# Altium footprint library PcbLib1.PcbLib: 7 footprints
Each footprint in its own frame and in the unit in brackets; x right, y up, seen from the top. Pads: shape width x height; smd on the part's side, far side on the other; paste and mask are expansions set on the pad; w line width, h text height; cw(c..) or ccw(c..) is an arc to the next point about the centre after c.
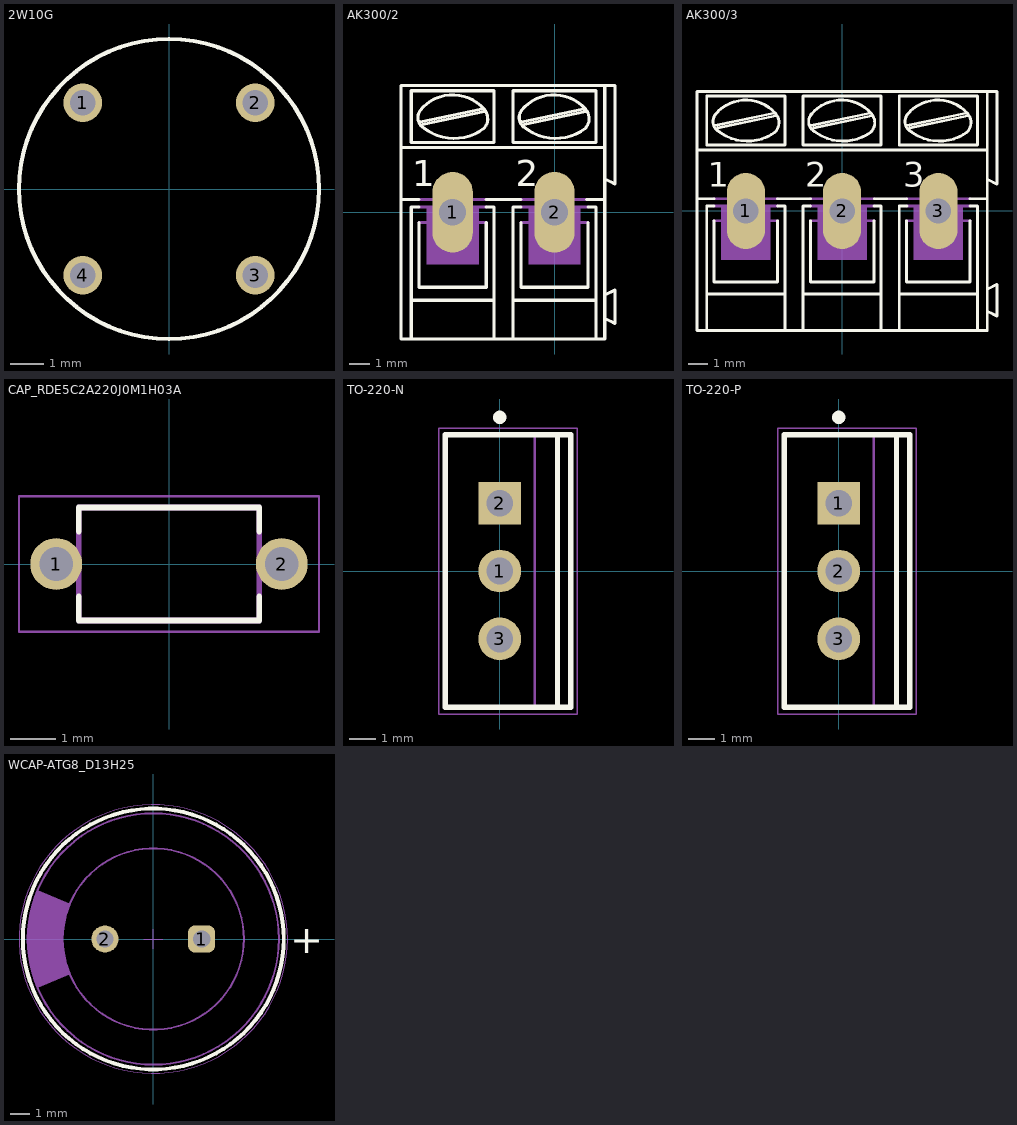
[diagram p0: the footprints below, top view; thin cyan lines are the x and y axes]

## 2W10G [mm]
pads (4):
  round 1.15 hole 0.75: 1(-2.55,2.55) 2(2.55,2.55) 3(2.55,-2.55) 4(-2.55,-2.55)
Top Overlay:
  circle w0.127: c0,0 r4.435
3D body "2W10.step": height 9.65, standoff -25.4, extent -6.364,-6.364 6.364,6.364

## AK300/2 [mil]
pads (2):
  oval 78x156 hole 52: 1(-197,0) 2(0,0)
Top Overlay:
  lines w6: -297,245 -297,125 -297,25 ; -295,125 97,125 ; -295,245 97,245 ; -262,-20 -262,-145 -132,-145 -132,-20 ; -262,10 -277,10 -277,-170 ; -262,25 -297,25 ; -260,175 -140,200 ; -259.99,197.01 cw(c-197,146) -135.82,199.18 ; -258.08,198.92 ccw(c-241,183) -252.32,162.57 ; -255,170 -135,195 ; -254.44,164.36 ccw(c-194,239) -136.19,162.29 ; -138.1,160.91 ccw(c-156.19,181.01) -136.09,199.1 ; -132,10 -117,10 -117,-170 ; -132,25 -65,25 ; -65,-20 -65,-145 65,-145 65,-20 ; -65,10 -80,10 -80,-170 ; -64,175 56,200 ; -63.99,197.01 cw(c-1,146) 60.18,199.18 ; -62.08,198.92 ccw(c-45,183) -56.32,162.57 ; -59,170 61,195 ; -58.44,164.36 ccw(c2,239) 59.8,162.29 ; 57.9,160.91 ccw(c39.81,181.01) 59.91,199.1 ; 62,25 97,25 ; 65,10 80,10 80,-170 ; 77,-245 97,-245 97,-205 ; -297,25 -297,-245 -277,-245 ; -277,-245 -117,-245 ; -277,-245 -277,-170 ; -277,-170 -117,-170 ; -117,-245 -117,-170 ; -117,-245 -80,-245 ; -80,-245 -80,-170 ; -80,-245 80,-245 80,-170 ; -80,-170 80,-170 ; 97,-205 117,-215 117,-150 97,-160 ; 97,-205 97,-160 ; 97,-160 97,25 ; 97,25 97,65 ; 97,65 117,55 117,245 97,245 ; 97,65 97,125 ; 97,125 97,245 ; -277,135 -117,135 -117,235 -277,235 -277,135 ; -80,135 -80,235 80,235 80,135 -80,135
  text "2" at -75,50 h50
  text "1" at -275,50 h50
Mechanical 13:
  region: -147,-100 -247,-100 -247,10 -147,10
  region: 50,-100 -50,-100 -50,10 50,10
  lines w6: -262,-20 -247,-20 ; -262,10 -132,10 ; -262,25 -132,25 ; -147,-20 -132,-20 ; -65,-20 -50,-20 ; -65,10 65,10 ; -65,25 65,25 ; 50,-20 65,-20
3D body "DG300-5.0-02P-12-00AH.STEP": height 496.06, standoff -173.23, extent -319.04,-157.47 98.28,196.86

## AK300/3 [mil]
pads (3):
  oval 78x156 hole 52: 1(-197,0) 2(0,0) 3(197,0)
Top Overlay:
  lines w6: -262,-20 -262,-145 -132,-145 -132,-20 ; -262,10 -277,10 -277,-170 ; -262,25 -297,25 ; -260,175 -140,200 ; -259.99,197.01 cw(c-197,146) -135.82,199.18 ; -258.08,198.92 ccw(c-241,183) -252.32,162.57 ; -255,170 -135,195 ; -254.44,164.36 ccw(c-194,239) -136.19,162.29 ; -138.1,160.91 ccw(c-156.19,181.01) -136.09,199.1 ; -132,10 -117,10 -117,-170 ; -132,25 -65,25 ; -65,-20 -65,-145 65,-145 65,-20 ; -65,10 -80,10 -80,-170 ; -64,175 56,200 ; -63.99,197.01 cw(c-1,146) 60.18,199.18 ; -62.08,198.92 ccw(c-45,183) -56.32,162.57 ; -59,170 61,195 ; -58.44,164.36 ccw(c2,239) 59.8,162.29 ; 57.9,160.91 ccw(c39.81,181.01) 59.91,199.1 ; 65,10 80,10 80,-170 ; 66,25 132,25 ; 132,-20 132,-145 262,-145 262,-20 ; 133,10 117,10 117,-170 ; 133,175 253,200 ; 133.01,197.01 cw(c196,146) 257.17,199.17 ; 134.92,198.92 ccw(c152,183) 140.68,162.57 ; 138,170 258,195 ; 138.56,164.36 ccw(c199,239) 256.8,162.29 ; 254.9,160.91 ccw(c236.81,181.01) 256.91,199.1 ; 262,10 277,10 277,-170 ; 262,25 297,25 ; -297,25 -297,125 ; -297,25 -297,-245 -277,-245 ; -297,125 -297,245 297,245 ; -297,125 297,125 ; -277,-245 -277,-170 ; -277,-245 -117,-245 ; -277,-170 -117,-170 ; -117,-245 -80,-245 ; -117,-245 -117,-170 ; -80,-245 80,-245 ; -80,-245 -80,-170 ; -80,-170 80,-170 ; 80,-245 80,-170 ; 80,-245 117,-245 ; 117,-245 277,-245 ; 117,-245 117,-170 ; 117,-170 277,-170 ; 277,-245 277,-170 ; 277,-245 297,-245 297,-205 ; 297,-205 297,-160 ; 297,-205 317,-215 317,-150 297,-160 ; 297,-160 297,25 ; 297,25 297,65 ; 297,65 297,125 ; 297,65 317,55 317,245 297,245 ; 297,125 297,245 ; -277,135 -277,235 -117,235 -117,135 -277,135 ; -80,135 80,135 80,235 -80,235 -80,135 ; 117,135 277,135 277,235 117,235 117,135
  text "3" at 125,50 h50
  text "1" at -275,50 h50
  text "2" at -75,50 h50
Mechanical 13:
  region: 247,-100 147,-100 147,10 247,10
  region: 50,-100 -50,-100 -50,10 50,10
  region: -147,-100 -247,-100 -247,10 -147,10
  lines w6: -262,-20 -247,-20 ; -262,10 -132,10 ; -262,25 -132,25 ; -147,-20 -132,-20 ; -65,-20 -50,-20 ; -65,10 65,10 ; -65,25 65,25 ; 50,-20 65,-20 ; 132,-20 146,-20 ; 133,10 262,10 ; 133,25 262,25 ; 247,-20 262,-20
3D body "DG300-5.0-03P-12-00AH.STEP": height 496.06, standoff -173.23, extent -318.89,-157.47 295.28,196.86

## CAP_RDE5C2A220J0M1H03A [mm]
pads (2):
  round 1.15 hole 0.75: 1(-2.5,0) 2(2.5,0)
Top Overlay:
  lines w0.127: -2,-0.72 -2,-1.25 2,-1.25 2,-0.72 ; -2,0.72 -2,1.25 2,1.25 2,0.72
Mechanical 13:
  lines w0.127: -2,-1.25 -2,1.25 2,1.25 2,-1.25 -2,-1.25
Mechanical 15:
  lines w0.05: -3.325,-1.5 -3.325,1.5 3.325,1.5 3.325,-1.5 -3.325,-1.5
3D body "RDE5C2A220J0M1H03A.STEP": height 6, standoff -22.5, extent -2.75,-1.27 2.75,1.23

## TO-220-N [mm] "FM, 3-Leads, Body 10.2x4.7mm, Pitch 2.54mm"
height 18.95
pads (3):
  round 1.6 hole 1: 1(0,0) 3(0,-2.54)
  rect 1.6x1.6 hole 1: 2(0,2.54)
Top Overlay:
  circle w0.25: c0,5.75 r0.125
  lines w0.2: 2.16,-5.1 2.16,5.1 ; -2.04,-5.1 2.66,-5.1 2.66,5.1 -2.04,5.1 -2.04,-5.1
Mechanical 13:
  lines w0.1: 1.31,-5.1 1.31,5.1 ; -2.04,-5.1 -2.04,5.1 2.66,5.1 2.66,-5.1 -2.04,-5.1
Mechanical 15:
  lines w0.05: -2.29,-5.35 -2.29,5.35 2.91,5.35 2.91,-5.35 -2.29,-5.35
  lines w0.1: -0.5,0 0.5,0 ; 0,-0.5 0,0.5
3D body: height 3, standoff 0, extent -0.265,1.78 0.265,3.3
3D body: height 0, standoff -1.6, extent -0.265,2.14 0.265,2.94
3D body: height 3, standoff 0, extent -0.265,-0.76 0.265,0.76
3D body: height 0, standoff -1.6, extent -0.265,-0.4 0.265,0.4
3D body: height 3, standoff 0, extent -0.265,-3.3 0.265,-1.78
3D body: height 0, standoff -1.6, extent -0.265,-2.94 0.265,-2.14
3D body: height 12.2, standoff 3, extent -2.04,-5.1 2.66,5.1
3D body: height 14.35, standoff 12.2, extent 1.31,-4.95 2.66,4.95
3D body: height 14.39, standoff 14.35, extent 1.31,0.351 2.66,4.95
3D body: height 14.39, standoff 14.35, extent 1.31,-4.95 2.66,-0.351
3D body: height 17.95, standoff 17.92, extent 1.31,0.351 2.66,4.95
3D body: height 17.95, standoff 17.92, extent 1.31,-4.95 2.66,-0.351
3D body: height 14.49, standoff 14.38, extent 1.31,0.689 2.66,4.95
3D body: height 14.49, standoff 14.38, extent 1.31,-4.95 2.66,-0.689
3D body: height 17.92, standoff 17.81, extent 1.31,0.689 2.66,4.95
3D body: height 17.92, standoff 17.81, extent 1.31,-4.95 2.66,-0.689
3D body: height 14.66, standoff 14.49, extent 1.31,1 2.66,4.95
3D body: height 14.66, standoff 14.49, extent 1.31,-4.95 2.66,-1
3D body: height 17.82, standoff 17.65, extent 1.31,1 2.66,4.95
3D body: height 17.82, standoff 17.65, extent 1.31,-4.95 2.66,-1
3D body: height 14.88, standoff 14.65, extent 1.31,1.273 2.66,4.95
3D body: height 14.88, standoff 14.65, extent 1.31,-4.95 2.66,-1.273
3D body: height 17.65, standoff 17.42, extent 1.31,1.273 2.66,4.95
3D body: height 17.65, standoff 17.42, extent 1.31,-4.95 2.66,-1.273
3D body: height 15.15, standoff 14.88, extent 1.31,1.497 2.66,4.95
3D body: height 15.15, standoff 14.88, extent 1.31,-4.95 2.66,-1.497
3D body: height 17.43, standoff 17.15, extent 1.31,1.497 2.66,4.95
3D body: height 17.43, standoff 17.15, extent 1.31,-4.95 2.66,-1.497
3D body: height 15.47, standoff 15.15, extent 1.31,1.663 2.66,4.95
3D body: height 15.47, standoff 15.15, extent 1.31,-4.95 2.66,-1.663
3D body: height 17.16, standoff 16.84, extent 1.31,1.663 2.66,4.95
3D body: height 17.16, standoff 16.84, extent 1.31,-4.95 2.66,-1.663
3D body: height 15.8, standoff 15.46, extent 1.31,1.765 2.66,4.95
3D body: height 15.8, standoff 15.46, extent 1.31,-4.95 2.66,-1.765
3D body: height 16.84, standoff 16.5, extent 1.31,1.765 2.66,4.95
3D body: height 16.84, standoff 16.5, extent 1.31,-4.95 2.66,-1.765
3D body: height 16.15, standoff 15.8, extent 1.31,1.8 2.66,4.95
3D body: height 16.15, standoff 15.8, extent 1.31,-4.95 2.66,-1.8
3D body: height 16.51, standoff 16.15, extent 1.31,1.8 2.66,4.95
3D body: height 16.51, standoff 16.15, extent 1.31,-4.95 2.66,-1.8
3D body: height 18.95, standoff 17.95, extent 1.31,-4.95 2.66,4.95

## TO-220-P [mm] "FM, 3-Leads, Body 10.2x4.7mm, Pitch 2.54mm"
height 18.95
pads (3):
  rect 1.6x1.6 hole 1: 1(0,2.54)
  round 1.6 hole 1: 2(0,0) 3(0,-2.54)
Top Overlay:
  circle w0.25: c0,5.75 r0.125
  lines w0.2: 2.16,-5.1 2.16,5.1 ; -2.04,-5.1 -2.04,5.1 2.66,5.1 2.66,-5.1 -2.04,-5.1
Mechanical 13:
  lines w0.1: 1.31,-5.1 1.31,5.1 ; -2.04,-5.1 2.66,-5.1 2.66,5.1 -2.04,5.1 -2.04,-5.1
Mechanical 15:
  lines w0.05: -2.29,-5.35 2.91,-5.35 2.91,5.35 -2.29,5.35 -2.29,-5.35
  lines w0.1: -0.5,0 0.5,0 ; 0,-0.5 0,0.5
3D body: height 18.95, standoff 17.95, extent 1.31,-4.95 2.66,4.95
3D body: height 16.51, standoff 16.15, extent 1.31,-4.95 2.66,-1.8
3D body: height 16.51, standoff 16.15, extent 1.31,1.8 2.66,4.95
3D body: height 16.15, standoff 15.8, extent 1.31,-4.95 2.66,-1.8
3D body: height 16.15, standoff 15.8, extent 1.31,1.8 2.66,4.95
3D body: height 16.84, standoff 16.5, extent 1.31,-4.95 2.66,-1.765
3D body: height 16.84, standoff 16.5, extent 1.31,1.765 2.66,4.95
3D body: height 15.8, standoff 15.46, extent 1.31,-4.95 2.66,-1.765
3D body: height 15.8, standoff 15.46, extent 1.31,1.765 2.66,4.95
3D body: height 17.16, standoff 16.84, extent 1.31,-4.95 2.66,-1.663
3D body: height 17.16, standoff 16.84, extent 1.31,1.663 2.66,4.95
3D body: height 15.47, standoff 15.15, extent 1.31,-4.95 2.66,-1.663
3D body: height 15.47, standoff 15.15, extent 1.31,1.663 2.66,4.95
3D body: height 17.43, standoff 17.15, extent 1.31,-4.95 2.66,-1.497
3D body: height 17.43, standoff 17.15, extent 1.31,1.497 2.66,4.95
3D body: height 15.15, standoff 14.88, extent 1.31,-4.95 2.66,-1.497
3D body: height 15.15, standoff 14.88, extent 1.31,1.497 2.66,4.95
3D body: height 17.65, standoff 17.42, extent 1.31,-4.95 2.66,-1.273
3D body: height 17.65, standoff 17.42, extent 1.31,1.273 2.66,4.95
3D body: height 14.88, standoff 14.65, extent 1.31,-4.95 2.66,-1.273
3D body: height 14.88, standoff 14.65, extent 1.31,1.273 2.66,4.95
3D body: height 17.82, standoff 17.65, extent 1.31,-4.95 2.66,-1
3D body: height 17.82, standoff 17.65, extent 1.31,1 2.66,4.95
3D body: height 14.66, standoff 14.49, extent 1.31,-4.95 2.66,-1
3D body: height 14.66, standoff 14.49, extent 1.31,1 2.66,4.95
3D body: height 17.92, standoff 17.81, extent 1.31,-4.95 2.66,-0.689
3D body: height 17.92, standoff 17.81, extent 1.31,0.689 2.66,4.95
3D body: height 14.49, standoff 14.38, extent 1.31,-4.95 2.66,-0.689
3D body: height 14.49, standoff 14.38, extent 1.31,0.689 2.66,4.95
3D body: height 17.95, standoff 17.92, extent 1.31,-4.95 2.66,-0.351
3D body: height 17.95, standoff 17.92, extent 1.31,0.351 2.66,4.95
3D body: height 14.39, standoff 14.35, extent 1.31,-4.95 2.66,-0.351
3D body: height 14.39, standoff 14.35, extent 1.31,0.351 2.66,4.95
3D body: height 14.35, standoff 12.2, extent 1.31,-4.95 2.66,4.95
3D body: height 12.2, standoff 3, extent -2.04,-5.1 2.66,5.1
3D body: height 0, standoff -1.6, extent -0.265,-2.94 0.265,-2.14
3D body: height 3, standoff 0, extent -0.265,-3.3 0.265,-1.78
3D body: height 0, standoff -1.6, extent -0.265,-0.4 0.265,0.4
3D body: height 3, standoff 0, extent -0.265,-0.76 0.265,0.76
3D body: height 0, standoff -1.6, extent -0.265,2.14 0.265,2.94
3D body: height 3, standoff 0, extent -0.265,1.78 0.265,3.3

## WCAP-ATG8_D13H25 [mm] "Aluminum Electrolytic Capacitors, 13x25mm"
height 25
pads (2):
  rrect50% 1.4x1.4 hole 0.9: 1(2.5,0)
  round 1.4 hole 0.9: 2(-2.5,0)
Top Overlay:
  circle w0.2: c0,0 r6.75
  text "+" at 7.075,-0.737 h1.5
Mechanical 11:
  circle w0.1: c0,0 r4.69
  circle w0.1: c0,0 r6.5
  region: -5.99,-2.525 -6.116,-2.226 -6.307,-1.606 -6.435,-0.97 -6.5,-0.324 -6.5,0.324 -6.435,0.97 -6.307,1.606 -6.116,2.226 -5.99,2.525 -4.32,1.826 -4.321,1.824 -4.406,1.606 -4.545,1.159 -4.637,0.7 -4.684,0.234 -4.684,-0.234 -4.637,-0.7 -4.545,-1.159 -4.406,-1.606 -4.321,-1.824 -4.32,-1.826
  text ".Designator" at -2.5,-0.75 h1.5
Mechanical 15:
  circle w0.05: c0,0 r6.95
  lines w0.05: -0.5,0 0.5,0 ; 0,-0.5 0,0.5
3D body "13x25x5x0.6.stp": height 25.31, standoff -19.91, extent -6.49,-6.5 6.5,6.5